# Altium schematic symbol library Schlib1.SchLib: 11 symbols
Pins are listed as number, name and electrical type; pins without a type are passive.

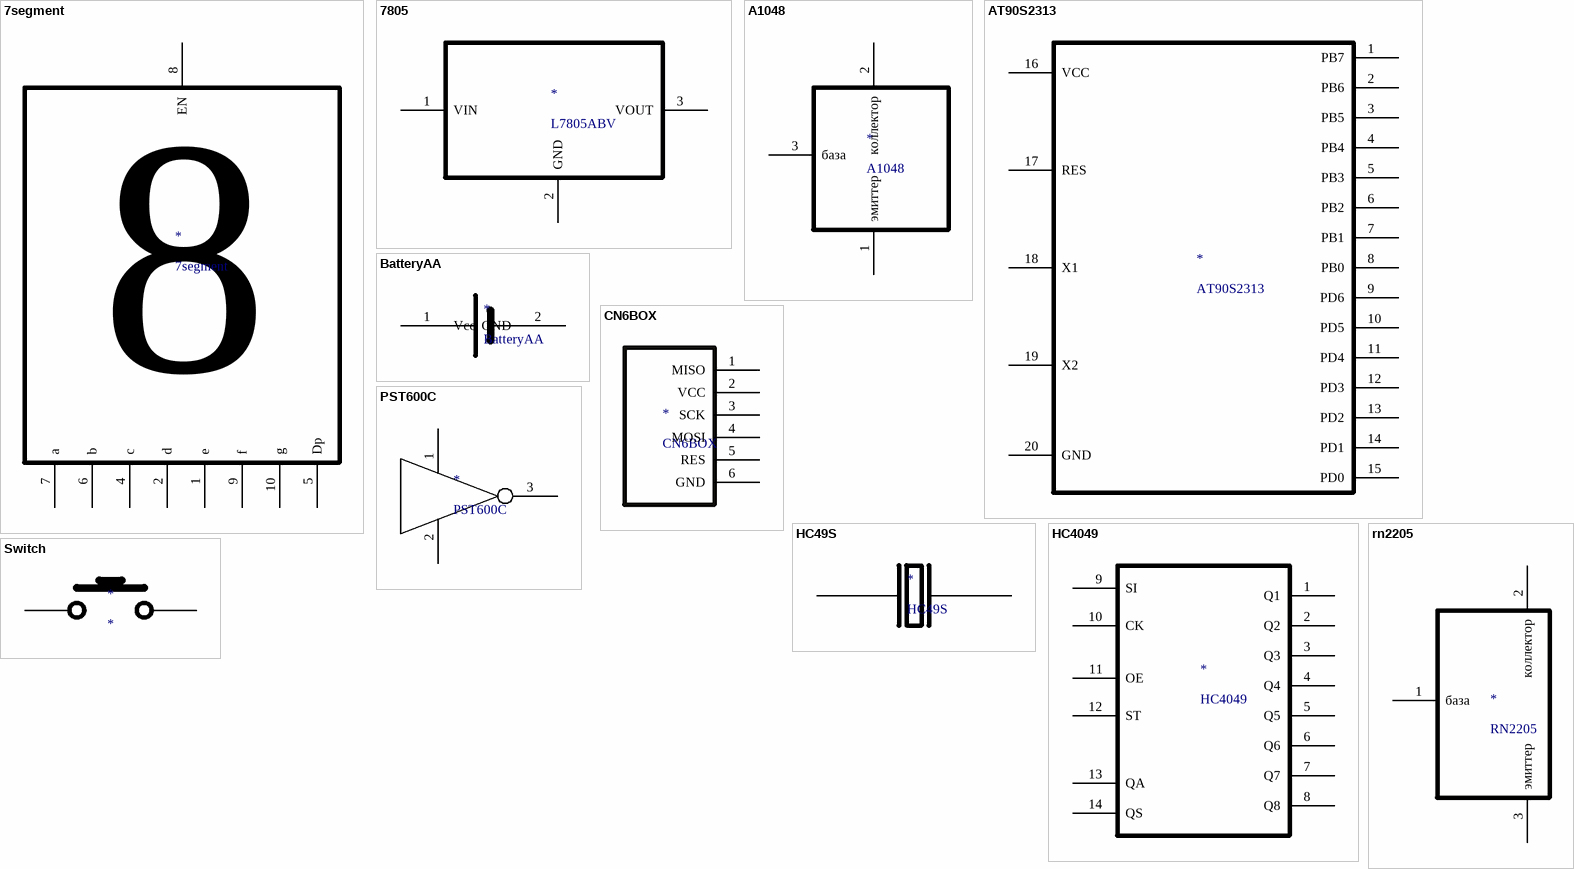
[diagram p0: symbols 7segment to Switch]

## 7segment
designator *
footprint 7segment
pins: 1 e, 2 d, 4 c, 5 Dp, 6 b, 7 a, 8 EN, 9 f, 10 g

## 7805
designator *, comment L7805ABV
7805
footprint 7805
pins: 1 VIN, 2 GND, 3 VOUT

## A1048
designator *
footprint PST600C
pins: 1 эмиттер, 2 коллектор, 3 база

## AT90S2313
designator *
footprint AT90S2313
pins: 1 PB7, 2 PB6, 3 PB5, 4 PB4, 5 PB3, 6 PB2, 7 PB1, 8 PB0, 9 PD6, 10 PD5, 11 PD4, 12 PD3, 13 PD2, 14 PD1, 15 PD0, 16 VCC, 17 RES, 18 X1, 19 X2, 20 GND

## BatteryAA
designator *
footprint Battery
pins: 1 Vcc, 2 GND

## CN6BOX
designator *
footprint CN6BOX
pins: 1 MISO, 2 VCC, 3 SCK, 4 MOSI, 5 RES, 6 GND

## HC49S
designator *
footprint HC49S
pins: 1 QS, 2 QS

## HC4049
designator *
footprint HC4049
pins: 1 Q1, 2 Q2, 3 Q3, 4 Q4, 5 Q5, 6 Q6, 7 Q7, 8 Q8, 9 SI, 10 CK, 11 OE, 12 ST, 13 QA, 14 QS

## PST600C
designator *
footprint PST600C
pins: 1 QS, 2 QS, 3 QS

## rn2205
designator *, comment RN2205
footprint PST600C
pins: 1 база, 2 коллектор, 3 эмиттер

## Switch
designator *
footprint SWITCH
pins: 1, 2